# Altium schematic symbol library AB-EZD03R-A3.SchLib: 1 symbol
Pins are listed as number, name and electrical type; pins without a type are passive.

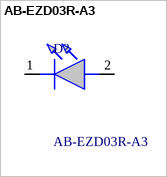
[diagram p0: symbol AB-EZD03R-A3]

## AB-EZD03R-A3
designator D?
Single Color LEDs 0.3W, 12V, RED, 3030 EMC, DC ezyLED; Manufacturer_Name: American Bright LED; Geometry.Height: 0.62mm; Manufacturer_Part_Number: AB-EZD03R-A3; Mouser Part Number: *; Mouser Price/Stock: *; Arrow Part Number: *; Arrow Price/Stock: *; Datasheet Link: https://www.americanbrightled.com/pdffiles/led-components/ezyled/AB-EZD-12V.pdf
footprint ABEZD03RA3
pins: 1 K, 2 A